# Altium footprint library PCBLib.PcbLib: 168 footprints (part 5 of 11)
Each footprint in its own frame and in the unit in brackets; x right, y up, seen from the top. Pads: shape width x height; smd on the part's side, far side on the other; paste and mask are expansions set on the pad; w line width, h text height; cw(c..) or ccw(c..) is an arc to the next point about the centre after c.
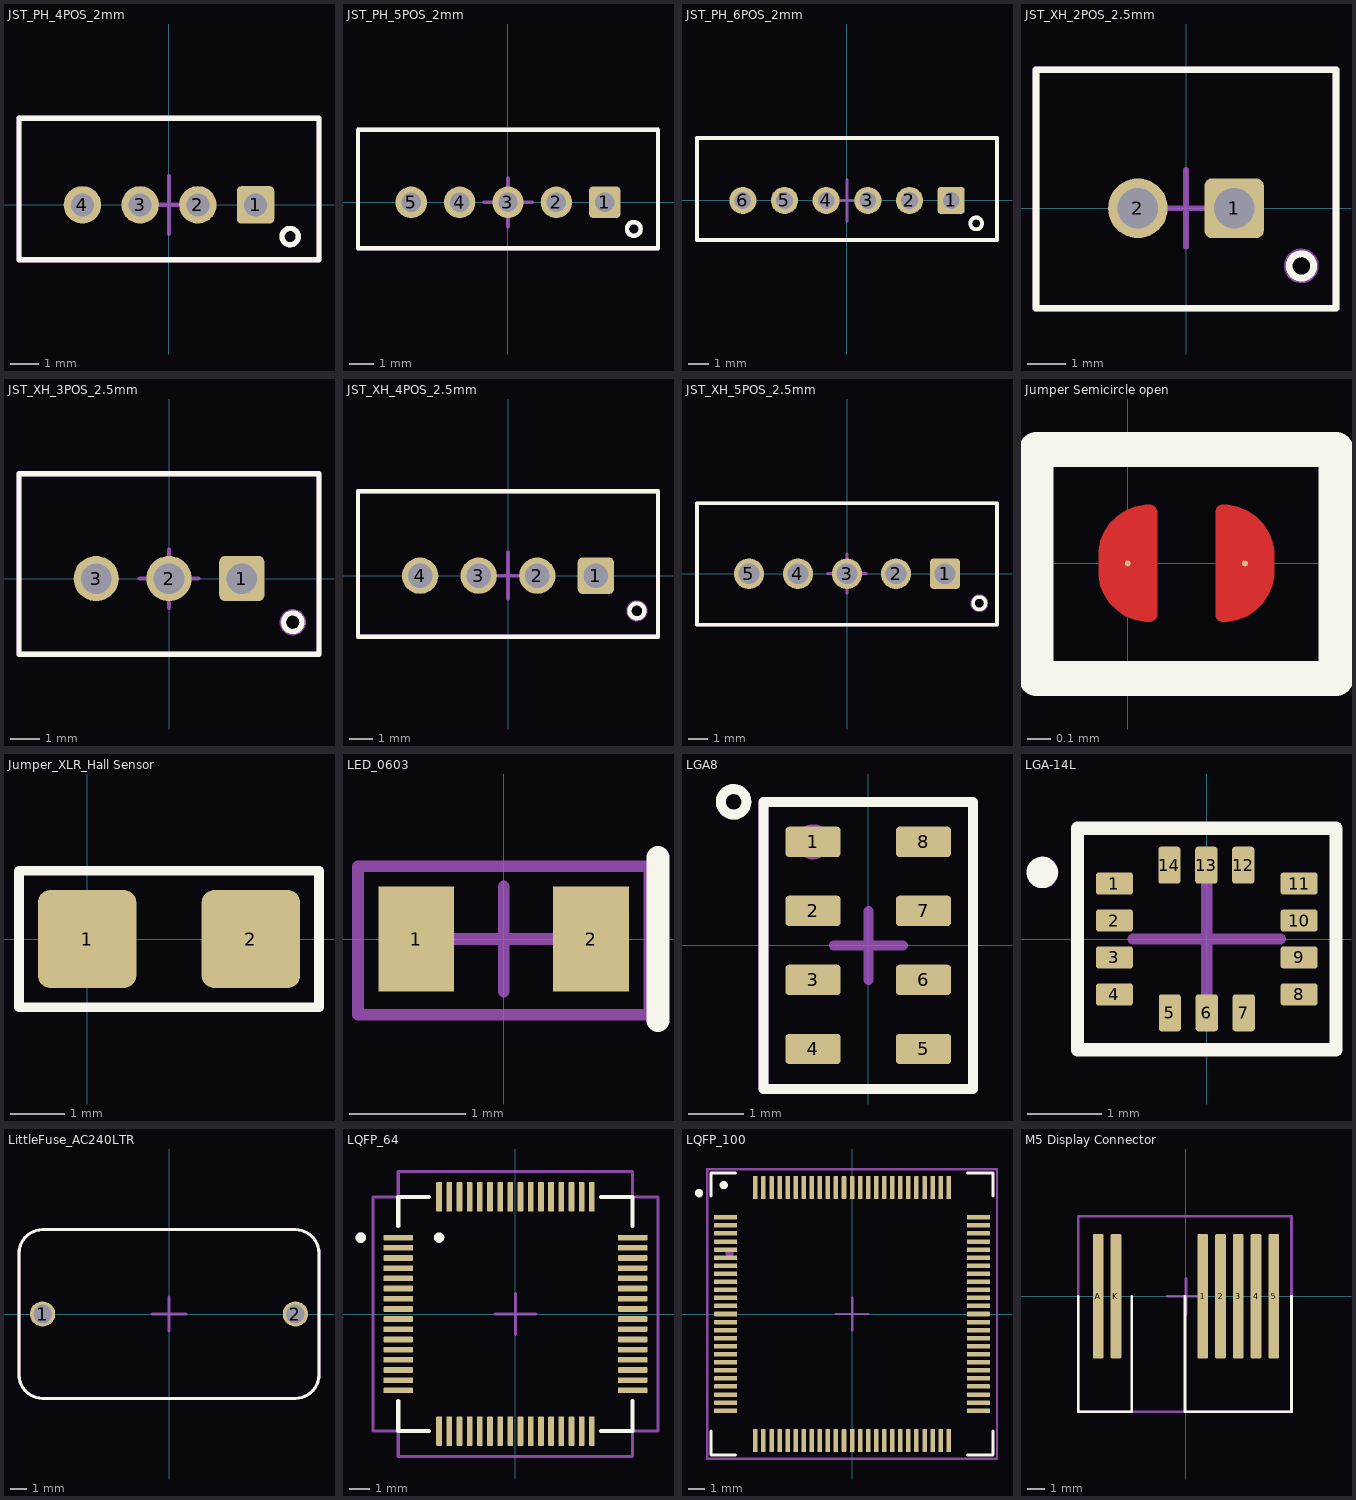
[diagram p4: the footprints below, top view; thin cyan lines are the x and y axes]

## JST_PH_4POS_2mm [mm]
pads (4):
  rrect25% 1.3x1.3 hole 0.8 mask+0.05: 1(3,0)
  round 1.3 hole 0.8 mask+0.05: 2(1,0) 3(-1,0) 4(-3,0)
Top Overlay:
  circle w0.18: c4.2,-1.1 r0.283
  lines w0.18: -5.2,-1.9 5.2,-1.9 5.2,3 -5.2,3 -5.2,-1.9
Top Assembly:
  circle w0.18: c4.2,-1.1 r0.283
  lines w0.18: -5.2,-1.9 -5.2,3 5.2,3 5.2,-1.9 -5.2,-1.9
Top Component Center:
  lines w0.15: -1,0 1,0 ; 0,-1 0,1
Top Courtyard:
  lines w0.05: -5.2,-1.9 -5.2,3 5.2,3 5.2,-1.9 -5.2,-1.9
Top Designator:
  text ".Designator" at -3.809,-0.254 h0.76
3D body "B4B-PH-K-S--3DModel-STEP-56544.STEP": height 6, standoff -3.4, extent -4.95,-1.75 4.95,2.75

## JST_PH_5POS_2mm [mm]
pads (5):
  rrect25% 1.3x1.3 hole 0.8 mask+0.05: 1(4,0)
  round 1.3 hole 0.8 mask+0.05: 2(2,0) 3(0,0) 4(-2,0) 5(-4,0)
Top Overlay:
  circle w0.18: c5.2,-1.1 r0.283
  lines w0.18: -6.2,-1.9 6.2,-1.9 6.2,3 -6.2,3 -6.2,-1.9
Top Assembly:
  circle w0.18: c5.2,-1.1 r0.283
  lines w0.18: -6.2,-1.9 -6.2,3 6.2,3 6.2,-1.9 -6.2,-1.9
Top Component Center:
  lines w0.15: -1,0 1,0 ; 0,-1 0,1
Top Courtyard:
  lines w0.05: -6.2,-1.9 -6.2,3 6.2,3 6.2,-1.9 -6.2,-1.9
Top Designator:
  text ".Designator" at -3.809,-0.254 h0.76
3D body "B5B-PH-K-S--3DModel-STEP-510211.STEP": height 6, standoff -3.4, extent -5.95,-1.712 5.95,2.788

## JST_PH_6POS_2mm [mm]
pads (6):
  rrect25% 1.3x1.3 hole 0.8 mask+0.05: 1(5,0)
  round 1.3 hole 0.8 mask+0.05: 2(3,0) 3(1,0) 4(-1,0) 5(-3,0) 6(-5,0)
Top Overlay:
  circle w0.18: c6.2,-1.1 r0.283
  lines w0.18: -7.2,-1.9 -7.2,3 7.2,3 7.2,-1.9 -7.2,-1.9
Top Assembly:
  circle w0.18: c6.2,-1.1 r0.283
  lines w0.18: -7.2,-1.9 7.2,-1.9 7.2,3 -7.2,3 -7.2,-1.9
Top Component Center:
  lines w0.15: -1,0 1,0 ; 0,-1 0,1
Top Courtyard:
  lines w0.05: -7.2,-1.9 7.2,-1.9 7.2,3 -7.2,3 -7.2,-1.9
Top Designator:
  text ".Designator" at -3.809,-0.254 h0.76
3D body "B6B-PH-K-S--3DModel-STEP-56544.STEP": height 6, standoff -3.4, extent -6.95,-1.686 6.95,2.814

## JST_XH_2POS_2.5mm [mm]
pads (2):
  rrect25% 1.55x1.55 hole 1.05 mask+0.05: 1(1.25,0)
  round 1.55 hole 1.05 mask+0.05: 2(-1.25,0)
Top Overlay:
  circle w0.18: c3,-1.5 r0.316
  lines w0.18: -3.9,-2.6 3.9,-2.6 3.9,3.6 -3.9,3.6 -3.9,-2.6
Top Assembly:
  circle w0.18: c3,-1.5 r0.361
  lines w0.18: -3.9,-2.6 -3.9,3.6 3.9,3.6 3.9,-2.6 -3.9,-2.6
Top Component Center:
  lines w0.15: -1,0 1,0 ; 0,-1 0,1
Top Courtyard:
  lines w0.05: -3.9,-2.6 3.9,-2.6 3.9,3.6 -3.9,3.6 -3.9,-2.6
Top Designator:
  text ".Designator" at -3.809,-0.254 h0.76
3D body "B2B-XH-A.step": height 7, standoff -3.4, extent -3.7,-2.345 3.7,3.405

## JST_XH_3POS_2.5mm [mm]
pads (3):
  rrect25% 1.55x1.55 hole 1.05 mask+0.05: 1(2.5,0)
  round 1.55 hole 1.05 mask+0.05: 2(0,0) 3(-2.5,0)
Top Overlay:
  circle w0.18: c4.25,-1.5 r0.316
  lines w0.18: -5.15,-2.6 5.15,-2.6 5.15,3.6 -5.15,3.6 -5.15,-2.6
Top Assembly:
  circle w0.18: c4.25,-1.5 r0.361
  lines w0.18: -5.15,-2.6 -5.15,3.6 5.15,3.6 5.15,-2.6 -5.15,-2.6
Top Component Center:
  lines w0.15: -1,0 1,0 ; 0,-1 0,1
Top Courtyard:
  lines w0.05: -5.15,-2.6 5.15,-2.6 5.15,3.6 -5.15,3.6 -5.15,-2.6
Top Designator:
  text ".Designator" at -3.809,-0.254 h0.76
3D body "B3B-XH-A-LF--SN---3DModel-STEP-418109.STEP": height 7, standoff -3.4, extent -4.95,-2.375 4.95,3.375

## JST_XH_4POS_2.5mm [mm]
pads (4):
  rrect25% 1.55x1.55 hole 1.05 mask+0.05: 1(3.75,0)
  round 1.55 hole 1.05 mask+0.05: 2(1.25,0) 3(-1.25,0) 4(-3.75,0)
Top Overlay:
  circle w0.18: c5.5,-1.5 r0.316
  lines w0.18: -6.4,-2.6 -6.4,3.6 6.4,3.6 6.4,-2.6 -6.4,-2.6
Top Assembly:
  circle w0.18: c5.5,-1.5 r0.361
  lines w0.18: -6.4,-2.6 6.4,-2.6 6.4,3.6 -6.4,3.6 -6.4,-2.6
Top Component Center:
  lines w0.15: -1,0.009 1,0.009 ; 0,-0.991 0,1.009
Top Courtyard:
  lines w0.05: -6.4,-2.6 -6.4,3.6 6.4,3.6 6.4,-2.6 -6.4,-2.6
Top Designator:
  text ".Designator" at -3.809,-0.254 h0.76
3D body "B4B-XH-A.step": height 7, standoff -3.4, extent -6.2,-2.355 6.2,3.395

## JST_XH_5POS_2.5mm [mm]
pads (5):
  rrect25% 1.55x1.55 hole 1.05 mask+0.05: 1(5,0)
  round 1.55 hole 1.05 mask+0.05: 2(2.5,0) 3(0,0) 4(-2.5,0) 5(-5,0)
Top Overlay:
  circle w0.18: c6.75,-1.5 r0.316
  lines w0.18: -7.65,-2.6 7.65,-2.6 7.65,3.6 -7.65,3.6 -7.65,-2.6
Top Assembly:
  circle w0.18: c6.75,-1.5 r0.361
  lines w0.18: -7.65,-2.6 -7.65,3.6 7.65,3.6 7.65,-2.6 -7.65,-2.6
Top Component Center:
  lines w0.15: -1,0.009 1,0.009 ; 0,-0.991 0,1.009
Top Courtyard:
  lines w0.05: -7.65,-2.6 7.65,-2.6 7.65,3.6 -7.65,3.6 -7.65,-2.6
Top Designator:
  text ".Designator" at -3.809,-0.245 h0.76
3D body "B5B-XH-A.step": height 7, standoff -3.4, extent -7.45,-2.38 7.45,3.37

## Jumper Semicircle open [mil]
pads (2):
  round 1 smd mask+1.97: 1(0,0) 2(19.68,0)
Top Layer:
  region: 15.99,9.84 16.84,9.84 18.51,9.51 20.07,8.86 21.48,7.92 22.68,6.72 23.63,5.31 24.27,3.74 24.61,2.08 24.61,1.23 24.61,-1.23 24.61,-2.08 24.28,-3.74 23.63,-5.31 22.68,-6.72 21.48,-7.92 20.07,-8.86 18.51,-9.51 16.84,-9.84 15.99,-9.84 15.75,-9.84 15.3,-9.65 14.95,-9.31 14.76,-8.86 14.76,-8.61 14.76,8.61 14.76,8.86 14.95,9.31 15.3,9.66 15.75,9.84
  region: 3.69,-9.84 2.84,-9.84 1.18,-9.51 -0.39,-8.86 -1.8,-7.92 -3,-6.72 -3.94,-5.31 -4.59,-3.74 -4.92,-2.08 -4.92,-1.23 -4.92,1.23 -4.92,2.08 -4.59,3.74 -3.94,5.31 -3,6.72 -1.8,7.92 -0.39,8.86 1.18,9.51 2.84,9.84 3.69,9.84 3.94,9.84 4.39,9.65 4.73,9.31 4.92,8.86 4.92,8.61 4.92,-8.61 4.92,-8.86 4.73,-9.31 4.39,-9.66 3.94,-9.84
Top Overlay:
  lines w5.91: -15.43,-19.35 -15.43,19.14 35,19.14 35,-19.35 -15.43,-19.35

## Jumper_XLR_Hall Sensor [mm]
pads (2):
  rrect25% 1.8x1.8 smd mask+0.05: 1(0,0) 2(3,0)
Top Overlay:
  lines w0.18: -1.25,-1.25 -1.25,1.25 4.25,1.25 4.25,-1.25 -1.25,-1.25

## LED_0603 [mm] "Chip Capacitor 0603, 2-Leads, Body 1.68x0.88mm, IPC Medium Density"
height 0.9
pads (2):
  rect 0.65x0.9 smd mask+0.05: 1(-0.75,0) 2(0.75,0)
Top Overlay:
  lines w0.2: 1.325,-0.7 1.325,0.275 1.325,0.7
Top Assembly:
  lines w0.1: -1.25,-0.65 -1.25,0.625 1.25,0.625 1.25,-0.65 -1.25,-0.65
Top Component Center:
  lines w0.1: -0.45,0 0.45,0 ; 0,-0.45 0,0.45
Top Courtyard:
  lines w0.05: -1.25,-0.65 -1.25,0.625 1.25,0.625 1.25,-0.65 -1.25,-0.65
Top Designator:
  text ".Designator" at -3.809,-0.254 h0.76
3D body "HSMD-C190.STEP": height 1, standoff 0, extent -0.8,-0.3 0.8,0.3

## LGA8 [mm]
pads (8):
  rrect25% 1x0.55 smd mask+0.05: 1(-1,1.875) 2(-1,0.625) 3(-1,-0.625) 4(-1,-1.875) 5(1,-1.875) 6(1,-0.625) 7(1,0.625) 8(1,1.875)
Top Overlay:
  circle w0.18: c-2.439,2.6 r0.232
  lines w0.18: -1.9,-2.6 1.9,-2.6 1.9,2.6 -1.9,2.6 -1.9,-2.6
Top Assembly:
  circle w0.18: c-2.436,2.6 r0.229
  circle w0.18: c-1,1.875 r0.229
  lines w0.18: -1.9,-2.6 -1.9,2.6 1.9,2.6 1.9,-2.6 -1.9,-2.6
Top Component Center:
  lines w0.18: -0.625,0 0.625,0 ; 0,-0.625 0,0.625
Top Courtyard:
  lines w0.05: -1.9,-2.6 -1.9,2.6 1.9,2.6 1.9,-2.6 -1.9,-2.6
Top Designator:
  text ".Designator" at -3.809,-0.254 h0.76
3D body "MPL3115A2--3DModel-STEP-269445.STEP": height 1.2, standoff 0, extent -1.5,-2.5 1.5,2.5

## LGA-14L [mm]
pads (14):
  rrect25% 0.5x0.3 smd mask+0.05: 1(-1.25,0.75) 2(-1.25,0.25) 3(-1.25,-0.25) 4(-1.25,-0.75) 8(1.25,-0.75) 9(1.25,-0.25) 10(1.25,0.25) 11(1.25,0.75)
  rrect25% 0.3x0.5 smd mask+0.05: 5(-0.5,-1) 6(0,-1) 7(0.5,-1) 12(0.494,1) 13(-0.006,1) 14(-0.506,1)
Top Overlay:
  circle w0.254: c-2.227,0.902 r0.085
  lines w0.18: -1.75,-1.5 1.75,-1.5 1.75,1.5 -1.75,1.5 -1.75,-1.5
Top Assembly:
  circle w0.254: c-2.223,0.9 r0.085
  lines w0.15: -1.75,-1.5 -1.75,1.5 1.75,1.5 1.75,-1.5 -1.75,-1.5
Top Component Center:
  lines w0.15: -1,0 1,0 ; 0,-1 0,1
Top Courtyard:
  lines w0.05: -1.75,-1.5 -1.75,1.5 1.75,1.5 1.75,-1.5 -1.75,-1.5
Top Designator:
  text ".Designator" at -3.809,-0.254 h0.76
3D body "LGA-14L_2P5X3X0P83_STM.step": height 0.87, standoff 0, extent -1.549,-1.295 1.549,1.295

## LittleFuse_AC240LTR [mm]
pads (2):
  round 1.5 hole 1.1 mask+0.05: 1(-7.5,0) 2(7.5,0)
Top Overlay:
  lines w0.18: -8.9,-3.6 ccw(c-7.5,-3.6) -7.5,-5 7.5,-5 ccw(c7.5,-3.6) 8.9,-3.6 8.9,3.6 ccw(c7.5,3.6) 7.5,5 -7.5,5 ccw(c-7.5,3.6) -8.9,3.6 -8.9,-3.6
Top Assembly:
  lines w0.18: -8.9,-3.6 ccw(c-7.5,-3.6) -7.5,-5 7.5,-5 ccw(c7.5,-3.6) 8.9,-3.6 8.9,3.6 ccw(c7.5,3.6) 7.5,5 -7.5,5 ccw(c-7.5,3.6) -8.9,3.6 -8.9,-3.6
Top Component Center:
  lines w0.18: -1,0 1,0 ; 0,-1 0,1
Top Courtyard:
  lines w0.05: -8.9,-3.6 ccw(c-7.5,-3.6) -7.5,-5 7.5,-5 ccw(c7.5,-3.6) 8.9,-3.6 8.9,3.6 ccw(c7.5,3.6) 7.5,5 -7.5,5 ccw(c-7.5,3.6) -8.9,3.6 -8.9,-3.6
Top Designator:
  text ".Designator" at -3.809,-0.254 h0.76

## LQFP_64 [mm] "S32K144 0.5mm Pitch"
pads (64):
  rrect25% 1.44x0.28 smd mask+0.1: 1(-5.755,3.75) 2(-5.755,3.25) 3(-5.755,2.75) 4(-5.755,2.25) 5(-5.755,1.75) 6(-5.755,1.25) 7(-5.755,0.75) 8(-5.755,0.25) 9(-5.755,-0.25) 10(-5.755,-0.75) 11(-5.755,-1.25) 12(-5.755,-1.75) 13(-5.755,-2.25) 14(-5.755,-2.75) 15(-5.755,-3.25) 16(-5.755,-3.75) 33(5.755,-3.75) 34(5.755,-3.25) 35(5.755,-2.75) 36(5.755,-2.25) 37(5.755,-1.75) 38(5.755,-1.25) 39(5.755,-0.75) 40(5.755,-0.25) 41(5.755,0.25) 42(5.755,0.75) 43(5.755,1.25) 44(5.755,1.75) 45(5.755,2.25) 46(5.755,2.75) 47(5.755,3.25) 48(5.755,3.75)
  rrect25% 0.28x1.44 smd mask+0.1: 17(-3.75,-5.755) 18(-3.25,-5.755) 19(-2.75,-5.755) 20(-2.25,-5.755) 21(-1.75,-5.755) 22(-1.25,-5.755) 23(-0.75,-5.755) 24(-0.25,-5.755) 25(0.25,-5.755) 26(0.75,-5.755) 27(1.25,-5.755) 28(1.75,-5.755) 29(2.25,-5.755) 30(2.75,-5.755) 31(3.25,-5.755) 32(3.75,-5.755) 49(3.75,5.755) 50(3.25,5.755) 51(2.75,5.755) 52(2.25,5.755) 53(1.75,5.755) 54(1.25,5.755) 55(0.75,5.755) 56(0.25,5.755) 57(-0.25,5.755) 58(-0.75,5.755) 59(-1.25,5.755) 60(-1.75,5.755) 61(-2.25,5.755) 62(-2.75,5.755) 63(-3.25,5.755) 64(-3.75,5.755)
Top Overlay:
  circle w0.254: c-3.75,3.75 r0.127
  circle w0.254: c-7.596,3.75 r0.127
  lines w0.2: -5.755,-4.276 -5.755,-5.755 -4.254,-5.755 ; -5.755,4.32 -5.755,5.755 -4.254,5.755 ; 4.191,-5.755 5.755,-5.755 5.755,-4.276 ; 4.191,5.755 5.755,5.755 5.755,4.32
Top Assembly:
  circle w0.254: c-7.606,3.75 r0.127
  lines w0.15: -7,-5.755 -7,5.755 -5.755,5.755 -5.755,7 5.755,7 5.755,5.755 7,5.755 7,-5.755 5.755,-5.755 5.755,-7 -5.755,-7 -5.755,-5.755 -7,-5.755
Top Component Center:
  lines w0.15: -1,0 1,0 ; 0,-1 0,1
Top Courtyard:
  lines w0.05: -7,-5.755 -7,5.755 -5.755,5.755 -5.755,7 5.755,7 5.755,5.755 7,5.755 7,-5.755 5.755,-5.755 5.755,-7 -5.755,-7 -5.755,-5.755 -7,-5.755
Top Designator:
  text ".Designator" at -3.809,-0.254 h0.76
3D body "LQFP64 v1.step": height 1.6, standoff 0.02, extent -6.069,-6.069 6.069,6.069

## LQFP_100 [mm] "MCXA145VLL 0.5mm Pitch"
pads (100):
  rrect25% 1.44x0.28 smd mask+0.1: 1(-7.85,6) 2(-7.85,5.5) 3(-7.85,5) 4(-7.85,4.5) 5(-7.85,4) 6(-7.85,3.5) 7(-7.85,3) 8(-7.85,2.5) 9(-7.85,2) 10(-7.85,1.5) 11(-7.85,1) 12(-7.85,0.5) 13(-7.85,0) 14(-7.85,-0.5) 15(-7.85,-1) 16(-7.85,-1.5) 17(-7.85,-2) 18(-7.85,-2.5) 19(-7.85,-3) 20(-7.85,-3.5) 21(-7.85,-4) 22(-7.85,-4.5) 23(-7.85,-5) 24(-7.85,-5.5) 25(-7.85,-6) 51(7.85,-6) 52(7.85,-5.5) 53(7.85,-5) 54(7.85,-4.5) 55(7.85,-4) 56(7.85,-3.5) 57(7.85,-3) 58(7.85,-2.5) 59(7.85,-2) 60(7.85,-1.5) 61(7.85,-1) 62(7.85,-0.5) 63(7.85,0) 64(7.85,0.5) 65(7.85,1) 66(7.85,1.5) 67(7.85,2) 68(7.85,2.5) 69(7.85,3) 70(7.85,3.5) 71(7.85,4) 72(7.85,4.5) 73(7.85,5) 74(7.85,5.5) 75(7.85,6)
  rrect25% 0.28x1.44 smd mask+0.1: 26(-6,-7.85) 27(-5.5,-7.85) 28(-5,-7.85) 29(-4.5,-7.85) 30(-4,-7.85) 31(-3.5,-7.85) 32(-3,-7.85) 33(-2.5,-7.85) 34(-2,-7.85) 35(-1.5,-7.85) 36(-1,-7.85) 37(-0.5,-7.85) 38(0,-7.85) 39(0.5,-7.85) 40(1,-7.85) 41(1.5,-7.85) 42(2,-7.85) 43(2.5,-7.85) 44(3,-7.85) 45(3.5,-7.85) 46(4,-7.85) 47(4.5,-7.85) 48(5,-7.85) 49(5.5,-7.85) 50(6,-7.85) 76(6,7.85) 77(5.5,7.85) 78(5,7.85) 79(4.5,7.85) 80(4,7.85) 81(3.5,7.85) 82(3,7.85) 83(2.5,7.85) 84(2,7.85) 85(1.5,7.85) 86(1,7.85) 87(0.5,7.85) 88(0,7.85) 89(-0.5,7.85) 90(-1,7.85) 91(-1.5,7.85) 92(-2,7.85) 93(-2.5,7.85) 94(-3,7.85) 95(-3.5,7.85) 96(-4,7.85) 97(-4.5,7.85) 98(-5,7.85) 99(-5.5,7.85) 100(-6,7.85)
Top Overlay:
  circle w0.254: c-7.97,8 r0.127
  circle w0.254: c-9.5,7.5 r0.127
  lines w0.2: -8.755,7.32 -8.755,8.755 -7.254,8.755 ; -8.751,-7.271 -8.751,-8.75 -7.25,-8.75 ; 7.191,-8.755 8.755,-8.755 8.755,-7.276 ; 7.191,8.755 8.755,8.755 8.755,7.32
Top Assembly:
  circle w0.254: c-7.606,3.75 r0.127
  lines w0.15: -9,-9 -9,-5.755 -9,9 -5.755,9 9,9 9,-9 -9,-9
Top Component Center:
  lines w0.15: -1,0 1,0 ; 0,-1 0,1
Top Courtyard:
  lines w0.05: -9,-9 -9,9 9,9 9,-9 -7,-9 -9,-9
Top Designator:
  text ".Designator" at -3.809,-0.254 h0.76
3D body "STM32F103VET6--3DModel-STEP-56544.STEP": height 1.6, standoff 0, extent -8,-8 8,8

## M5 Display Connector [mm]
pads (7):
  rrect25% 0.6x7 smd paste+0 mask+0.05: 1(0.942,0) 2(1.942,0) 3(2.942,0) 4(3.942,0) 5(4.942,0) A(-4.942,0) K(-3.942,0)
Top Overlay:
  lines w0.15: -6.058,0 -6.058,-6.5 -3.058,-6.5 -3.058,0 ; -0.058,0 -0.058,-6.5 5.942,-6.5 5.942,0
Top Assembly:
  lines w0.15: -6.058,-6.5 5.942,-6.5 5.942,4.5 -6.058,4.5 -6.058,-6.5
Top Component Center:
  lines w0.15: -1.058,0 0.942,0 ; 0,-1 0,1
Top Courtyard:
  lines w0.05: -6.058,-6.5 5.942,-6.5 5.942,4.5 -6.058,4.5 -6.058,-6.5
Top Designator:
  text ".Designator" at -3.809,-0.254 h0.76